# Altium schematic symbol library IPTC017N12NM6ATMA1.SchLib: 1 symbol
Pins are listed as number, name and electrical type; pins without a type are passive.

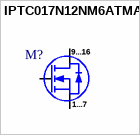
[diagram p0: symbol IPTC017N12NM6ATMA1]

## IPTC017N12NM6ATMA1
designator M?
Insulated-Gate Field-Effect Transistor (IGFET), N-Channel, Enhancement, Body Diode
pins: 1 S, 2 S, 3 S, 4 S, 5 S, 6 S, 7 S, 8 G, 9 D, 10 D, 11 D, 12 D, 13 D, 14 D, 15 D, 16 D
text: 9...16; 1...7